# EAGLE library part ATSAMD51J19 (library atsamd51)
Atmel SAMD21G SMART ARM-Based Microcontroller The Atmel ® | SMART ™ SAM D21 is a series of low-power microcontrollers using the 32-bit ARM ® Cortex ® -M0+ processor, and ranging from 32- to 64-pins with up to 256KB Flash and 32KB of SRAM. The SAM D21 devices operate at a maximum frequency of 48MHz and reach 2.46 CoreMark/MHz. They are designed for simple and intuitive migration with identical peripheral modules, hex compatible code, identical linear address map and pin compatible migration paths between all devices in the product series. All devices include intelligent and flexible peripherals, Atmel Event System for inter-peripheral signaling, and support for capacitive touch button, slider and wheel user interfaces. Datasheet <http://ww1.microchip.com/downloads/en/DeviceDoc/SAM-D5xE5x-Family-Datasheet-01507B.pdf>
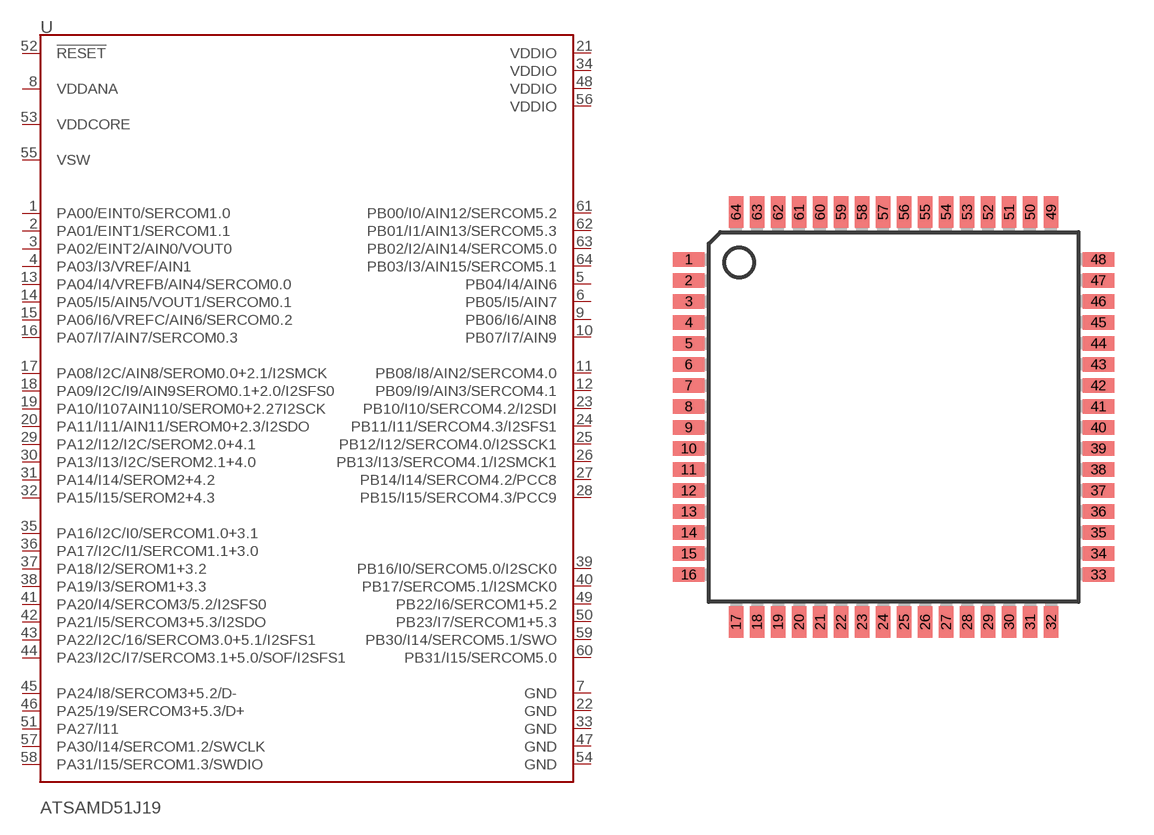
[diagram p2: symbol with the pads of TQFP64; footprint TQFP64]

Designator prefix U

## ATSAMD51J19  [TQFP64]
1  PA00/EINT0/SERCOM1.0
2  PA01/EINT1/SERCOM1.1
3  PA02/EINT2/AIN0/VOUT0
4  PA03/I3/VREF/AIN1
5  PB04/I4/AIN6
6  PB05/I5/AIN7
7  GND
8  VDDANA
9  PB06/I6/AIN8
10  PB07/I7/AIN9
11  PB08/I8/AIN2/SERCOM4.0
12  PB09/I9/AIN3/SERCOM4.1
13  PA04/I4/VREFB/AIN4/SERCOM0.0
14  PA05/I5/AIN5/VOUT1/SERCOM0.1
15  PA06/I6/VREFC/AIN6/SERCOM0.2
16  PA07/I7/AIN7/SERCOM0.3
17  PA08/I2C/AIN8/SEROM0.0+2.1/I2SMCK
18  PA09/I2C/I9/AIN9SEROM0.1+2.0/I2SFS0
19  PA10/I107AIN110/SEROM0+2.27I2SCK
20  PA11/I11/AIN11/SEROM0+2.3/I2SDO
21  VDDIO
22  GND
23  PB10/I10/SERCOM4.2/I2SDI
24  PB11/I11/SERCOM4.3/I2SFS1
25  PB12/I12/SERCOM4.0/I2SSCK1
26  PB13/I13/SERCOM4.1/I2SMCK1
27  PB14/I14/SERCOM4.2/PCC8
28  PB15/I15/SERCOM4.3/PCC9
29  PA12/I12/I2C/SEROM2.0+4.1
30  PA13/I13/I2C/SEROM2.1+4.0
31  PA14/I14/SEROM2+4.2
32  PA15/I15/SEROM2+4.3
33  GND
34  VDDIO
35  PA16/I2C/I0/SERCOM1.0+3.1
36  PA17/I2C/I1/SERCOM1.1+3.0
37  PA18/I2/SEROM1+3.2
38  PA19/I3/SEROM1+3.3
39  PB16/I0/SERCOM5.0/I2SCK0
40  PB17/SERCOM5.1/I2SMCK0
41  PA20/I4/SERCOM3/5.2/I2SFS0
42  PA21/I5/SERCOM3+5.3/I2SDO
43  PA22/I2C/16/SERCOM3.0+5.1/I2SFS1
44  PA23/I2C/I7/SERCOM3.1+5.0/SOF/I2SFS1
45  PA24/I8/SERCOM3+5.2/D-
46  PA25/19/SERCOM3+5.3/D+
47  GND
48  VDDIO
49  PB22/I6/SERCOM1+5.2
50  PB23/I7/SERCOM1+5.3
51  PA27/I11
52  !RESET!
53  VDDCORE
54  GND
55  VSW
56  VDDIO
57  PA30/I14/SERCOM1.2/SWCLK
58  PA31/I15/SERCOM1.3/SWDIO
59  PB30/I14/SERCOM5.1/SWO
60  PB31/I15/SERCOM5.0
61  PB00/I0/AIN12/SERCOM5.2
62  PB01/I1/AIN13/SERCOM5.3
63  PB02/I2/AIN14/SERCOM5.0
64  PB03/I3/AIN15/SERCOM5.1

## Footprint TQFP64 (pad centres in mm)
Thin Plasic Quad Flat Package Updated from atml.lbr 17.01.2005 alf@cadsoft.de
smd 1.194 x 0.559: 1 -7.8,6; 2 -7.8,5.2; 3 -7.8,4.4; 4 -7.8,3.6; 5 -7.8,2.8; 6 -7.8,2; 7 -7.8,1.2; 8 -7.8,0.4; 9 -7.8,-0.4; 10 -7.8,-1.2; 11 -7.8,-2; 12 -7.8,-2.8; 13 -7.8,-3.6; 14 -7.8,-4.4; 15 -7.8,-5.2; 16 -7.8,-6; 33 7.8,-6; 34 7.8,-5.2; 35 7.8,-4.4; 36 7.8,-3.6; 37 7.8,-2.8; 38 7.8,-2; 39 7.8,-1.2; 40 7.8,-0.4; 41 7.8,0.4; 42 7.8,1.2; 43 7.8,2; 44 7.8,2.8; 45 7.8,3.6; 46 7.8,4.4; 47 7.8,5.2; 48 7.8,6
smd 0.559 x 1.194: 17 -6,-7.8; 18 -5.2,-7.8; 19 -4.4,-7.8; 20 -3.6,-7.8; 21 -2.8,-7.8; 22 -2,-7.8; 23 -1.2,-7.8; 24 -0.4,-7.8; 25 0.4,-7.8; 26 1.2,-7.8; 27 2,-7.8; 28 2.8,-7.8; 29 3.6,-7.8; 30 4.4,-7.8; 31 5.2,-7.8; 32 6,-7.8; 49 6,7.8; 50 5.2,7.8; 51 4.4,7.8; 52 3.6,7.8; 53 2.8,7.8; 54 2,7.8; 55 1.2,7.8; 56 0.4,7.8; 57 -0.4,7.8; 58 -1.2,7.8; 59 -2,7.8; 60 -2.8,7.8; 61 -3.6,7.8; 62 -4.4,7.8; 63 -5.2,7.8; 64 -6,7.8